# EAGLE library part LM2751SD-B (library LM2751SD-B)
LED Driver IC 1 Output DC DC Regulator Switched Capacitor (Charge Pump) PWM Dimming 150mA 10-WSON (3x3) Check availability <https://pricing.snapeda.com/parts/LM2751SD-B/NOPB/Texas%20Instruments/view-part?ref=eda>
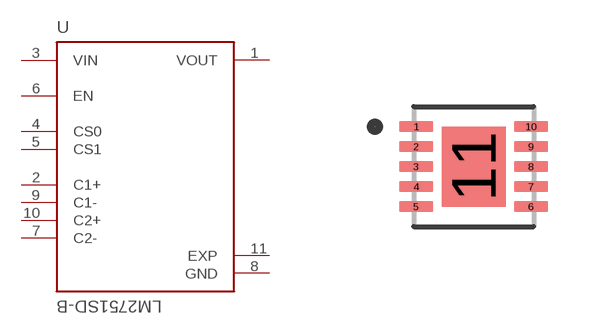
[diagram p0: symbol with the pads of SON50P300X300X80-11N; footprint SON50P300X300X80-11N]

Designator prefix U

## LM2751SD-B (Availability: In Stock; Description: Regulated 2X, 1.5X Switched capacitor White LED driver; MF: Texas Instruments; MP: LM2751SD-B/NOPB; Package: WSON-10 Texas Instruments; Price: None; Purchase-URL: https://pricing.snapeda.com/search/part/LM2751SD-B/NOPB/?ref=eda)  [SON50P300X300X80-11N]
1  VOUT  out
2  C1+  pas
3  VIN  in
4  CS0  in
5  CS1  in
6  EN  in
7  C2-  pas
8  GND  pwr
9  C1-  pas
10  C2+  pas
11  EXP  pwr

## Footprint SON50P300X300X80-11N (pad centres in mm)
smd 0.86 x 0.27: 1 -1.435,1; 2 -1.435,0.5; 3 -1.435,0; 4 -1.435,-0.5; 5 -1.435,-1; 6 1.435,-1; 7 1.435,-0.5; 8 1.435,0; 9 1.435,0.5; 10 1.435,1
smd 1.6 x 2: 11 0,0